# EAGLE library part 64901821022 (library Wire-to-Board)
WR-MPC4-4.20mm Male Dual Row Angled Header with Mounting Flanges for Screw-in Retention,18 pins=>Code : Con_WTB_MPC4_2_PCB_64901821022 <http://katalog.we-online.de/media/thumbs2/eican/thb_Con_WTB_MPC4_2_PCB_6490xx21022_pf2.jpg> Details see: http://katalog.we-online.de/en/em/649_0xx_210_22 Created 2014-06-06, Karrer Zheng 2014 (C) Würth Elektronik
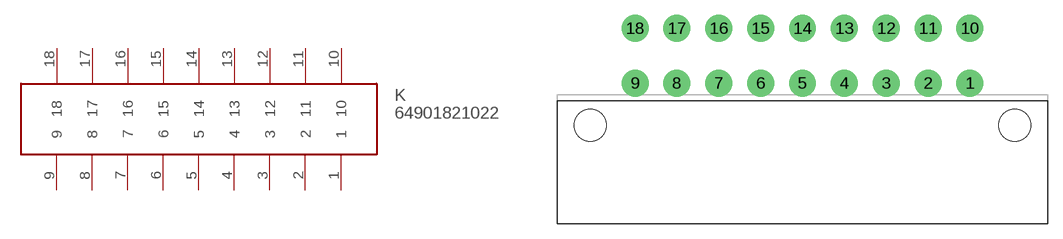
[diagram p305: symbol with the pads of 64901821022; footprint 64901821022]

Designator prefix K

## 64901821022  [64901821022]
1  1
2  2
3  3
4  4
5  5
6  6
7  7
8  8
9  9
10  10
11  11
12  12
13  13
14  14
15  15
16  16
17  17
18  18

## Footprint 64901821022 (pad centres in mm)
WR-MPC4-4.20mm Male Dual Row Angled Header with Mounting Flanges for Screw-in Retention,18 pins
drill 1.8: 1 19.195,-2.75; 2 14.995,-2.75; 3 10.795,-2.75; 4 6.595,-2.75; 5 2.395,-2.75; 6 -1.805,-2.75; 7 -6.005,-2.75; 8 -10.205,-2.75; 9 -14.405,-2.75; 10 19.195,2.75; 11 14.995,2.75; 12 10.795,2.75; 13 6.595,2.75; 14 2.395,2.75; 15 -1.805,2.75; 16 -6.005,2.75; 17 -10.205,2.75; 18 -14.405,2.75
hole 3.2 at -18.905,-6.95
hole 3.2 at 23.695,-6.95